# Altium schematic symbol library IR MOSFET Driver.SchLib: 3 symbols
Pins are listed as number, name and electrical type; pins without a type are passive.

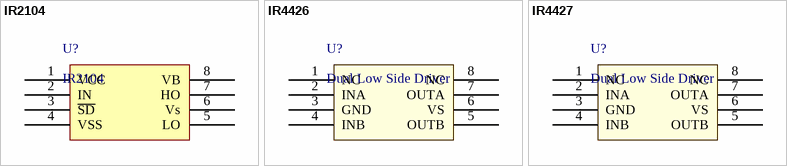
[diagram p0: symbols IR2104 to IR4427]

## IR2104
designator U?
IR MOSFET Driver
footprint SOIC8 (SOIC, 8-Leads, Body 4,90x3,90mm, Pitch 1,27mm, IPC Medium Density)
pins: 1 VCC, 2 IN, 3 ~{SD}, 4 VSS, 5 LO, 6 Vs, 7 HO, 8 VB

## IR4426
designator U?, comment Dual Low Side Driver
IR MOSFET Dual Low Side Driver; Manufacturer Part Number: IR4426; Manufacturer: IR
footprint SOIC8 (SOIC, 8-Leads, Body 4,90x3,90mm, Pitch 1,27mm, IPC Medium Density)
pins: 1 NC, 2 INA, 3 GND, 4 INB, 5 OUTB, 6 VS, 7 OUTA, 8 NC

## IR4427
designator U?, comment Dual Low Side Driver
IR MOSFET Dual Low Side Driver; Manufacturer Part Number: IR4427; Manufacturer: IR
footprint SOIC8 (SOIC, 8-Leads, Body 4,90x3,90mm, Pitch 1,27mm, IPC Medium Density)
pins: 1 NC, 2 INA, 3 GND, 4 INB, 5 OUTB, 6 VS, 7 OUTA, 8 NC